# EAGLE library part XC7A100T-2FTG256C (library XC7A100T-2FTG256C)
FPGA - Field Programmable Gate Array XC7A100T-2FTG256C Source: Datasheet <https://componentsearchengine.com/Datasheets/1/XC7A100T-2FTG256C.pdf>
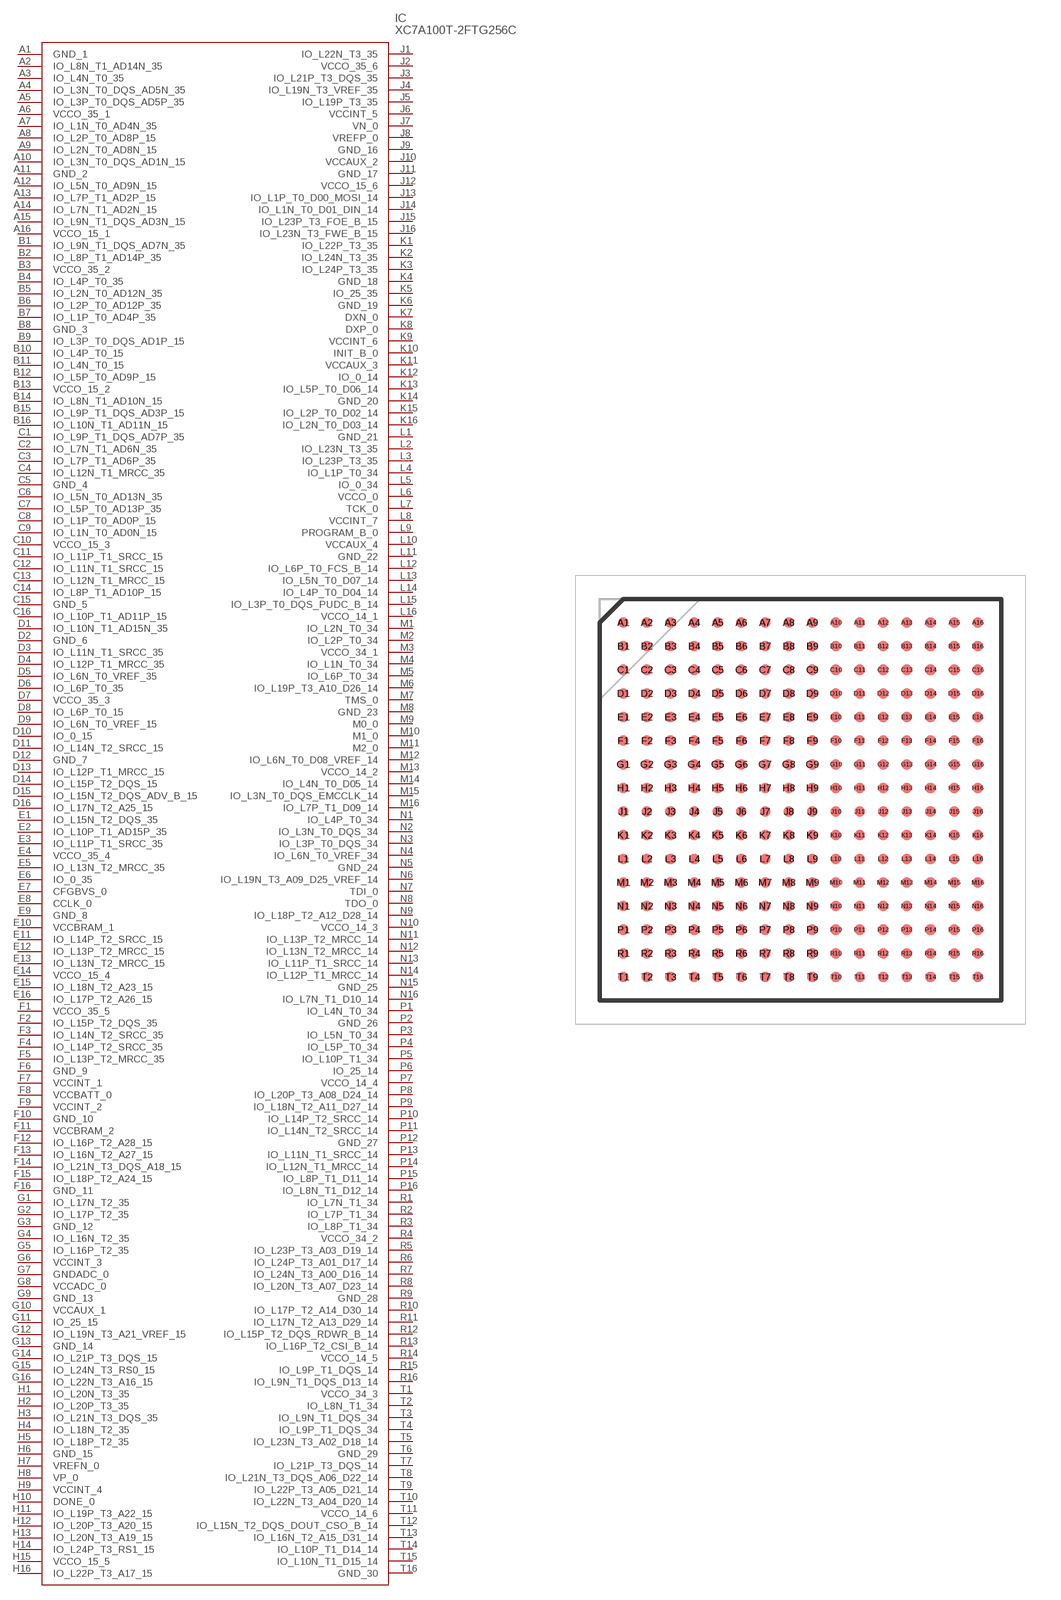
[diagram p0: symbol with the pads of BGA256C100P16X16_1700X1700X155; footprint BGA256C100P16X16_1700X1700X155]

Designator prefix IC

## XC7A100T-2FTG256C (Description: FPGA - Field Programmable Gate Array XC7A100T-2FTG256C; Height: 1.55mm; Manufacturer_Name: AMD; Manufacturer_Part_Number: XC7A100T-2FTG256C; Mouser_Part_Number: 217-C7A100T-2FTG256C; Mouser_Price-Stock: https://www.mouser.co.uk/ProductDetail/AMD-Xilinx/XC7A100T-2FTG256C?qs=rrS6PyfT74fWZgLrTYQTIA%3D%3D)  [BGA256C100P16X16_1700X1700X155]
A1  GND_1
A2  IO_L8N_T1_AD14N_35
A3  IO_L4N_T0_35
A4  IO_L3N_T0_DQS_AD5N_35
A5  IO_L3P_T0_DQS_AD5P_35
A6  VCCO_35_1
A7  IO_L1N_T0_AD4N_35
A8  IO_L2P_T0_AD8P_15
A9  IO_L2N_T0_AD8N_15
A10  IO_L3N_T0_DQS_AD1N_15
A11  GND_2
A12  IO_L5N_T0_AD9N_15
A13  IO_L7P_T1_AD2P_15
A14  IO_L7N_T1_AD2N_15
A15  IO_L9N_T1_DQS_AD3N_15
A16  VCCO_15_1
B1  IO_L9N_T1_DQS_AD7N_35
B2  IO_L8P_T1_AD14P_35
B3  VCCO_35_2
B4  IO_L4P_T0_35
B5  IO_L2N_T0_AD12N_35
B6  IO_L2P_T0_AD12P_35
B7  IO_L1P_T0_AD4P_35
B8  GND_3
B9  IO_L3P_T0_DQS_AD1P_15
B10  IO_L4P_T0_15
B11  IO_L4N_T0_15
B12  IO_L5P_T0_AD9P_15
B13  VCCO_15_2
B14  IO_L8N_T1_AD10N_15
B15  IO_L9P_T1_DQS_AD3P_15
B16  IO_L10N_T1_AD11N_15
C1  IO_L9P_T1_DQS_AD7P_35
C2  IO_L7N_T1_AD6N_35
C3  IO_L7P_T1_AD6P_35
C4  IO_L12N_T1_MRCC_35
C5  GND_4
C6  IO_L5N_T0_AD13N_35
C7  IO_L5P_T0_AD13P_35
C8  IO_L1P_T0_AD0P_15
C9  IO_L1N_T0_AD0N_15
C10  VCCO_15_3
C11  IO_L11P_T1_SRCC_15
C12  IO_L11N_T1_SRCC_15
C13  IO_L12N_T1_MRCC_15
C14  IO_L8P_T1_AD10P_15
C15  GND_5
C16  IO_L10P_T1_AD11P_15
D1  IO_L10N_T1_AD15N_35
D2  GND_6
D3  IO_L11N_T1_SRCC_35
D4  IO_L12P_T1_MRCC_35
D5  IO_L6N_T0_VREF_35
D6  IO_L6P_T0_35
D7  VCCO_35_3
D8  IO_L6P_T0_15
D9  IO_L6N_T0_VREF_15
D10  IO_0_15
D11  IO_L14N_T2_SRCC_15
D12  GND_7
D13  IO_L12P_T1_MRCC_15
D14  IO_L15P_T2_DQS_15
D15  IO_L15N_T2_DQS_ADV_B_15
D16  IO_L17N_T2_A25_15
E1  IO_L15N_T2_DQS_35
E2  IO_L10P_T1_AD15P_35
E3  IO_L11P_T1_SRCC_35
E4  VCCO_35_4
E5  IO_L13N_T2_MRCC_35
E6  IO_0_35
E7  CFGBVS_0
E8  CCLK_0
E9  GND_8
E10  VCCBRAM_1
E11  IO_L14P_T2_SRCC_15
E12  IO_L13P_T2_MRCC_15
E13  IO_L13N_T2_MRCC_15
E14  VCCO_15_4
E15  IO_L18N_T2_A23_15
E16  IO_L17P_T2_A26_15
F1  VCCO_35_5
F2  IO_L15P_T2_DQS_35
F3  IO_L14N_T2_SRCC_35
F4  IO_L14P_T2_SRCC_35
F5  IO_L13P_T2_MRCC_35
F6  GND_9
F7  VCCINT_1
F8  VCCBATT_0
F9  VCCINT_2
F10  GND_10
F11  VCCBRAM_2
F12  IO_L16P_T2_A28_15
F13  IO_L16N_T2_A27_15
F14  IO_L21N_T3_DQS_A18_15
F15  IO_L18P_T2_A24_15
F16  GND_11
G1  IO_L17N_T2_35
G2  IO_L17P_T2_35
G3  GND_12
G4  IO_L16N_T2_35
G5  IO_L16P_T2_35
G6  VCCINT_3
G7  GNDADC_0
G8  VCCADC_0
G9  GND_13
G10  VCCAUX_1
G11  IO_25_15
G12  IO_L19N_T3_A21_VREF_15
G13  GND_14
G14  IO_L21P_T3_DQS_15
G15  IO_L24N_T3_RS0_15
G16  IO_L22N_T3_A16_15
H1  IO_L20N_T3_35
H2  IO_L20P_T3_35
H3  IO_L21N_T3_DQS_35
H4  IO_L18N_T2_35
H5  IO_L18P_T2_35
H6  GND_15
H7  VREFN_0
H8  VP_0
H9  VCCINT_4
H10  DONE_0
H11  IO_L19P_T3_A22_15
H12  IO_L20P_T3_A20_15
H13  IO_L20N_T3_A19_15
H14  IO_L24P_T3_RS1_15
H15  VCCO_15_5
H16  IO_L22P_T3_A17_15
J1  IO_L22N_T3_35
J2  VCCO_35_6
J3  IO_L21P_T3_DQS_35
J4  IO_L19N_T3_VREF_35
J5  IO_L19P_T3_35
J6  VCCINT_5
J7  VN_0
J8  VREFP_0
J9  GND_16
J10  VCCAUX_2
J11  GND_17
J12  VCCO_15_6
J13  IO_L1P_T0_D00_MOSI_14
J14  IO_L1N_T0_D01_DIN_14
J15  IO_L23P_T3_FOE_B_15
J16  IO_L23N_T3_FWE_B_15
K1  IO_L22P_T3_35
K2  IO_L24N_T3_35
K3  IO_L24P_T3_35
K4  GND_18
K5  IO_25_35
K6  GND_19
K7  DXN_0
K8  DXP_0
K9  VCCINT_6
K10  INIT_B_0
K11  VCCAUX_3
K12  IO_0_14
K13  IO_L5P_T0_D06_14
K14  GND_20
K15  IO_L2P_T0_D02_14
K16  IO_L2N_T0_D03_14
L1  GND_21
L2  IO_L23N_T3_35
L3  IO_L23P_T3_35
L4  IO_L1P_T0_34
L5  IO_0_34
L6  VCCO_0
L7  TCK_0
L8  VCCINT_7
L9  PROGRAM_B_0
L10  VCCAUX_4
L11  GND_22
L12  IO_L6P_T0_FCS_B_14
L13  IO_L5N_T0_D07_14
L14  IO_L4P_T0_D04_14
L15  IO_L3P_T0_DQS_PUDC_B_14
L16  VCCO_14_1
M1  IO_L2N_T0_34
M2  IO_L2P_T0_34
M3  VCCO_34_1
M4  IO_L1N_T0_34
M5  IO_L6P_T0_34
M6  IO_L19P_T3_A10_D26_14
M7  TMS_0
M8  GND_23
M9  M0_0
M10  M1_0
M11  M2_0
M12  IO_L6N_T0_D08_VREF_14
M13  VCCO_14_2
M14  IO_L4N_T0_D05_14
M15  IO_L3N_T0_DQS_EMCCLK_14
M16  IO_L7P_T1_D09_14
N1  IO_L4P_T0_34
N2  IO_L3N_T0_DQS_34
N3  IO_L3P_T0_DQS_34
N4  IO_L6N_T0_VREF_34
N5  GND_24
N6  IO_L19N_T3_A09_D25_VREF_14
N7  TDI_0
N8  TDO_0
N9  IO_L18P_T2_A12_D28_14
N10  VCCO_14_3
N11  IO_L13P_T2_MRCC_14
N12  IO_L13N_T2_MRCC_14
N13  IO_L11P_T1_SRCC_14
N14  IO_L12P_T1_MRCC_14
N15  GND_25
N16  IO_L7N_T1_D10_14
P1  IO_L4N_T0_34
P2  GND_26
P3  IO_L5N_T0_34
P4  IO_L5P_T0_34
P5  IO_L10P_T1_34
P6  IO_25_14
P7  VCCO_14_4
P8  IO_L20P_T3_A08_D24_14
P9  IO_L18N_T2_A11_D27_14
P10  IO_L14P_T2_SRCC_14
P11  IO_L14N_T2_SRCC_14
P12  GND_27
P13  IO_L11N_T1_SRCC_14
P14  IO_L12N_T1_MRCC_14
P15  IO_L8P_T1_D11_14
P16  IO_L8N_T1_D12_14
R1  IO_L7N_T1_34
R2  IO_L7P_T1_34
R3  IO_L8P_T1_34
R4  VCCO_34_2
R5  IO_L23P_T3_A03_D19_14
R6  IO_L24P_T3_A01_D17_14
R7  IO_L24N_T3_A00_D16_14
R8  IO_L20N_T3_A07_D23_14
R9  GND_28
R10  IO_L17P_T2_A14_D30_14
R11  IO_L17N_T2_A13_D29_14
R12  IO_L15P_T2_DQS_RDWR_B_14
R13  IO_L16P_T2_CSI_B_14
R14  VCCO_14_5
R15  IO_L9P_T1_DQS_14
R16  IO_L9N_T1_DQS_D13_14
T1  VCCO_34_3
T2  IO_L8N_T1_34
T3  IO_L9N_T1_DQS_34
T4  IO_L9P_T1_DQS_34
T5  IO_L23N_T3_A02_D18_14
T6  GND_29
T7  IO_L21P_T3_DQS_14
T8  IO_L21N_T3_DQS_A06_D22_14
T9  IO_L22P_T3_A05_D21_14
T10  IO_L22N_T3_A04_D20_14
T11  VCCO_14_6
T12  IO_L15N_T2_DQS_DOUT_CSO_B_14
T13  IO_L16N_T2_A15_D31_14
T14  IO_L10P_T1_D14_14
T15  IO_L10N_T1_D15_14
T16  GND_30

## Footprint BGA256C100P16X16_1700X1700X155 (pad centres in mm)
FT(G)256
smd 0.45 x 0.45: A1 -7.5,7.5; A2 -6.5,7.5; A3 -5.5,7.5; A4 -4.5,7.5; A5 -3.5,7.5; A6 -2.5,7.5; A7 -1.5,7.5; A8 -0.5,7.5; A9 0.5,7.5; A10 1.5,7.5; A11 2.5,7.5; A12 3.5,7.5; A13 4.5,7.5; A14 5.5,7.5; A15 6.5,7.5; A16 7.5,7.5; B1 -7.5,6.5; B2 -6.5,6.5; B3 -5.5,6.5; B4 -4.5,6.5; B5 -3.5,6.5; B6 -2.5,6.5; B7 -1.5,6.5; B8 -0.5,6.5; B9 0.5,6.5; B10 1.5,6.5; B11 2.5,6.5; B12 3.5,6.5; B13 4.5,6.5; B14 5.5,6.5; B15 6.5,6.5; B16 7.5,6.5; C1 -7.5,5.5; C2 -6.5,5.5; C3 -5.5,5.5; C4 -4.5,5.5; C5 -3.5,5.5; C6 -2.5,5.5; C7 -1.5,5.5; C8 -0.5,5.5; C9 0.5,5.5; C10 1.5,5.5; C11 2.5,5.5; C12 3.5,5.5; C13 4.5,5.5; C14 5.5,5.5; C15 6.5,5.5; C16 7.5,5.5; D1 -7.5,4.5; D2 -6.5,4.5; D3 -5.5,4.5; D4 -4.5,4.5; D5 -3.5,4.5; D6 -2.5,4.5; D7 -1.5,4.5; D8 -0.5,4.5; D9 0.5,4.5; D10 1.5,4.5; D11 2.5,4.5; D12 3.5,4.5; D13 4.5,4.5; D14 5.5,4.5; D15 6.5,4.5; D16 7.5,4.5; E1 -7.5,3.5; E2 -6.5,3.5; E3 -5.5,3.5; E4 -4.5,3.5; E5 -3.5,3.5; E6 -2.5,3.5; E7 -1.5,3.5; E8 -0.5,3.5; E9 0.5,3.5; E10 1.5,3.5; E11 2.5,3.5; E12 3.5,3.5; E13 4.5,3.5; E14 5.5,3.5; E15 6.5,3.5; E16 7.5,3.5; F1 -7.5,2.5; F2 -6.5,2.5; F3 -5.5,2.5; F4 -4.5,2.5; F5 -3.5,2.5; F6 -2.5,2.5; F7 -1.5,2.5; F8 -0.5,2.5; F9 0.5,2.5; F10 1.5,2.5; F11 2.5,2.5; F12 3.5,2.5; F13 4.5,2.5; F14 5.5,2.5; F15 6.5,2.5; F16 7.5,2.5; G1 -7.5,1.5; G2 -6.5,1.5; G3 -5.5,1.5; G4 -4.5,1.5; G5 -3.5,1.5; G6 -2.5,1.5; G7 -1.5,1.5; G8 -0.5,1.5; G9 0.5,1.5; G10 1.5,1.5; G11 2.5,1.5; G12 3.5,1.5; G13 4.5,1.5; G14 5.5,1.5; G15 6.5,1.5; G16 7.5,1.5; H1 -7.5,0.5; H2 -6.5,0.5; H3 -5.5,0.5; H4 -4.5,0.5; H5 -3.5,0.5; H6 -2.5,0.5; H7 -1.5,0.5; H8 -0.5,0.5; H9 0.5,0.5; H10 1.5,0.5; H11 2.5,0.5; H12 3.5,0.5; H13 4.5,0.5; H14 5.5,0.5; H15 6.5,0.5; H16 7.5,0.5; J1 -7.5,-0.5; J2 -6.5,-0.5; J3 -5.5,-0.5; J4 -4.5,-0.5; J5 -3.5,-0.5; J6 -2.5,-0.5; J7 -1.5,-0.5; J8 -0.5,-0.5; J9 0.5,-0.5; J10 1.5,-0.5; J11 2.5,-0.5; J12 3.5,-0.5; J13 4.5,-0.5; J14 5.5,-0.5; J15 6.5,-0.5; J16 7.5,-0.5; K1 -7.5,-1.5; K2 -6.5,-1.5; K3 -5.5,-1.5; K4 -4.5,-1.5; K5 -3.5,-1.5; K6 -2.5,-1.5; K7 -1.5,-1.5; K8 -0.5,-1.5; K9 0.5,-1.5; K10 1.5,-1.5; K11 2.5,-1.5; K12 3.5,-1.5; K13 4.5,-1.5; K14 5.5,-1.5; K15 6.5,-1.5; K16 7.5,-1.5; L1 -7.5,-2.5; L2 -6.5,-2.5; L3 -5.5,-2.5; L4 -4.5,-2.5; L5 -3.5,-2.5; L6 -2.5,-2.5; L7 -1.5,-2.5; L8 -0.5,-2.5; L9 0.5,-2.5; L10 1.5,-2.5; L11 2.5,-2.5; L12 3.5,-2.5; L13 4.5,-2.5; L14 5.5,-2.5; L15 6.5,-2.5; L16 7.5,-2.5; M1 -7.5,-3.5; M2 -6.5,-3.5; M3 -5.5,-3.5; M4 -4.5,-3.5; M5 -3.5,-3.5; M6 -2.5,-3.5; M7 -1.5,-3.5; M8 -0.5,-3.5; M9 0.5,-3.5; M10 1.5,-3.5; M11 2.5,-3.5; M12 3.5,-3.5; M13 4.5,-3.5; M14 5.5,-3.5; M15 6.5,-3.5; M16 7.5,-3.5; N1 -7.5,-4.5; N2 -6.5,-4.5; N3 -5.5,-4.5; N4 -4.5,-4.5; N5 -3.5,-4.5; N6 -2.5,-4.5; N7 -1.5,-4.5; N8 -0.5,-4.5; N9 0.5,-4.5; N10 1.5,-4.5; N11 2.5,-4.5; N12 3.5,-4.5; N13 4.5,-4.5; N14 5.5,-4.5; N15 6.5,-4.5; N16 7.5,-4.5; P1 -7.5,-5.5; P2 -6.5,-5.5; P3 -5.5,-5.5; P4 -4.5,-5.5; P5 -3.5,-5.5; P6 -2.5,-5.5; P7 -1.5,-5.5; P8 -0.5,-5.5; P9 0.5,-5.5; P10 1.5,-5.5; P11 2.5,-5.5; P12 3.5,-5.5; P13 4.5,-5.5; P14 5.5,-5.5; P15 6.5,-5.5; P16 7.5,-5.5; R1 -7.5,-6.5; R2 -6.5,-6.5; R3 -5.5,-6.5; R4 -4.5,-6.5; R5 -3.5,-6.5; R6 -2.5,-6.5; R7 -1.5,-6.5; R8 -0.5,-6.5; R9 0.5,-6.5; R10 1.5,-6.5; R11 2.5,-6.5; R12 3.5,-6.5; R13 4.5,-6.5; R14 5.5,-6.5; R15 6.5,-6.5; R16 7.5,-6.5; T1 -7.5,-7.5; T2 -6.5,-7.5; T3 -5.5,-7.5; T4 -4.5,-7.5; T5 -3.5,-7.5; T6 -2.5,-7.5; T7 -1.5,-7.5; T8 -0.5,-7.5; T9 0.5,-7.5; T10 1.5,-7.5; T11 2.5,-7.5; T12 3.5,-7.5; T13 4.5,-7.5; T14 5.5,-7.5; T15 6.5,-7.5; T16 7.5,-7.5